# EAGLE library part LD39050PU33R (library Parts)
LDO電圧レギュレータ 出力電圧: 3.3 V 出力電流: 500 mA 入力電圧最大値: 5.5 V 最小入力電圧: + 1.5 V 出力タイプ: Fixed 最低動作温度: - 40 C 最高動作温度: + 125 C
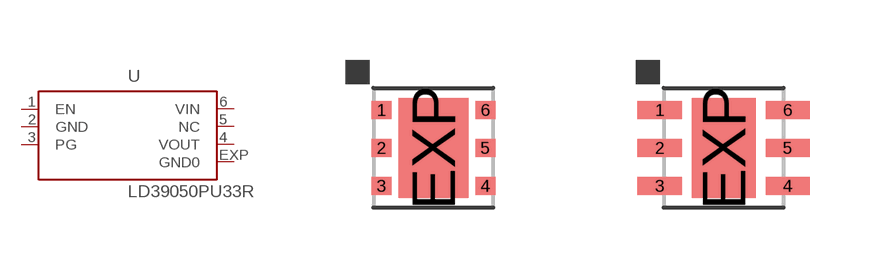
[diagram p16: symbol with the pads of DFN6-3X3; footprints DFN6-3X3, DFN6-3X3_DEV]

Designator prefix U

## LD39050PU33R  [DFN6-3X3]
1  EN
2  GND  pas
3  PG
4  VOUT  pas
5  NC  nc
6  VIN  pas
EXP  GND0  pas

## LD39050PU33R_DEV  [DFN6-3X3_DEV]
Pads as for DFN6-3X3

## Footprint DFN6-3X3 (pad centres in mm)
DFN6 3x3 mm package
smd 0.5 x 0.45: 1 -1.3,0.95; 2 -1.3,0; 3 -1.3,-0.95; 4 1.3,-0.95; 5 1.3,0; 6 1.3,0.95
smd 1.75 x 2.5: EXP 0,0

## Footprint DFN6-3X3_DEV (pad centres in mm)
DFN6 3x3 mm package 手はんだ用パターン
smd 1.1 x 0.45: 1 -1.6,0.95; 2 -1.6,0; 3 -1.6,-0.95; 4 1.6,-0.95; 5 1.6,0; 6 1.6,0.95
smd 1.6 x 2.5: EXP 0,0